# EAGLE library part ADS7824 (library burr-brown)
4-Channel, 12-Bit Sampling CMOS ADC
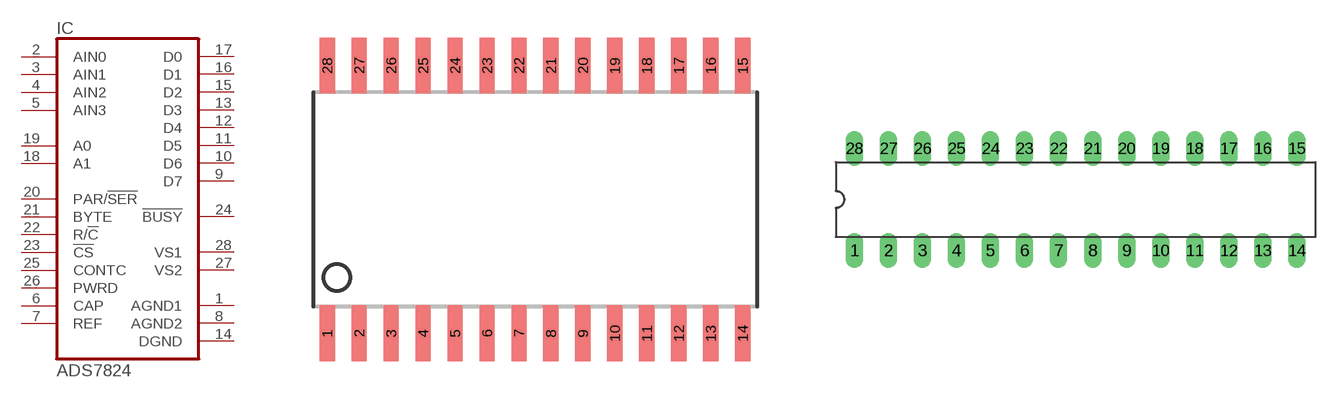
[diagram p56: symbol with the pads of SO28-3; footprints SO28-3, DIL28-3]

Designator prefix IC

## ADS7824U (MANUFACTURER: TEXAS INSTRUMENTS; MPN: ADS7824U)  [SO28-3]
1  AGND1  pwr
2  AIN0  in
3  AIN1  in
4  AIN2  in
5  AIN3  in
6  CAP  in
7  REF
8  AGND2  pwr
9  D7  out
10  D6  out
11  D5  out
12  D4
13  D3  out
14  DGND  pwr
15  D2
16  D1  out
17  D0
18  A1
19  A0
20  PAR/!SER  in
21  BYTE  in
22  R/!C  in
23  !CS  in
24  !BUSY  out
25  CONTC  in
26  PWRD  in
27  VS2  pwr
28  VS1  pwr

## ADS7824P (MANUFACTURER: TEXAS INSTRUMENT CONNECTORS; MPN: ADS7824P)  [DIL28-3]
Pads as for SO28-3

## Footprint SO28-3 (pad centres in mm)
Small Outline Package
smd 0.61 x 2.21: 1 -8.255,-5.315; 2 -6.985,-5.315; 3 -5.715,-5.315; 4 -4.445,-5.315; 5 -3.175,-5.315; 6 -1.905,-5.315; 7 -0.635,-5.315; 8 0.635,-5.315; 9 1.905,-5.315; 10 3.175,-5.315; 11 4.445,-5.315; 12 5.715,-5.315; 13 6.985,-5.315; 14 8.255,-5.315; 15 8.255,5.315; 16 6.985,5.315; 17 5.715,5.315; 18 4.445,5.315; 19 3.175,5.315; 20 1.905,5.315; 21 0.635,5.315; 22 -0.635,5.315; 23 -1.905,5.315; 24 -3.175,5.315; 25 -4.445,5.315; 26 -5.715,5.315; 27 -6.985,5.315; 28 -8.255,5.315

## Footprint DIL28-3 (pad centres in mm)
Dual In Line 0.3 inch
drill 0.813 long: 1 -16.51,-3.81; 2 -13.97,-3.81; 3 -11.43,-3.81; 4 -8.89,-3.81; 5 -6.35,-3.81; 6 -3.81,-3.81; 7 -1.27,-3.81; 8 1.27,-3.81; 9 3.81,-3.81; 10 6.35,-3.81; 11 8.89,-3.81; 12 11.43,-3.81; 13 13.97,-3.81; 14 16.51,-3.81; 15 16.51,3.81; 16 13.97,3.81; 17 11.43,3.81; 18 8.89,3.81; 19 6.35,3.81; 20 3.81,3.81; 21 1.27,3.81; 22 -1.27,3.81; 23 -3.81,3.81; 24 -6.35,3.81; 25 -8.89,3.81; 26 -11.43,3.81; 27 -13.97,3.81; 28 -16.51,3.81